# Altium footprint library PcbLib.PcbLib: 20 footprints (part 2 of 2)
Each footprint in its own frame and in the unit in brackets; x right, y up, seen from the top. Pads: shape width x height; smd on the part's side, far side on the other; paste and mask are expansions set on the pad; w line width, h text height; cw(c..) or ccw(c..) is an arc to the next point about the centre after c.
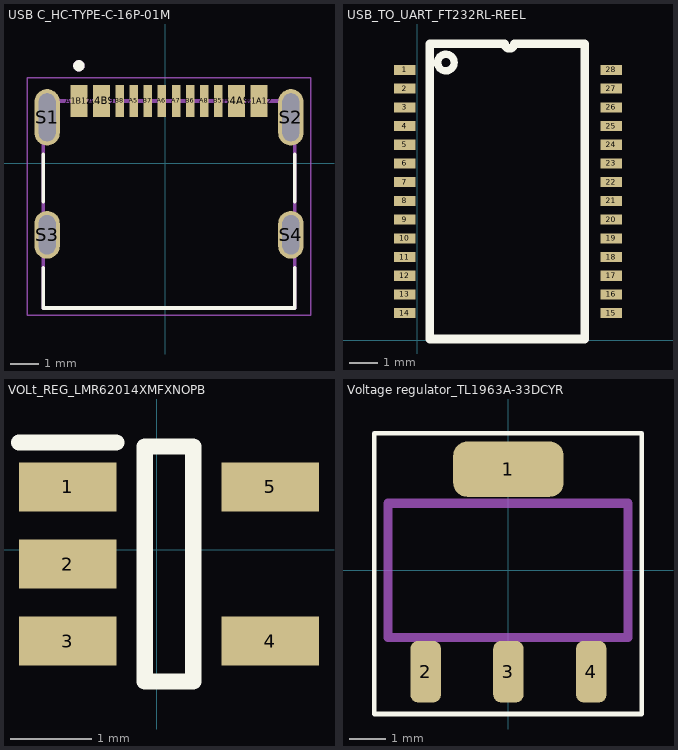
[diagram p1: the footprints below, top view; thin cyan lines are the x and y axes]

## USB C_HC-TYPE-C-16P-01M [mm]
pads (16):
  rect 0.6x1.14 smd mask+0.05: A1B12(-3.073,2.218) A4B9(-2.273,2.218) B1A12(3.327,2.218) B4A9(2.527,2.218)
  rect 0.3x1.14 smd mask+0.05: A5(-1.123,2.218) A6(-0.123,2.218) A7(0.377,2.218) A8(1.377,2.218) B5(1.877,2.218) B6(0.877,2.218) B7(-0.623,2.218) B8(-1.623,2.218)
  oval 0.9x2 hole 0.6 slot 1.7 at 90 deg: S1(-4.198,1.638) S2(4.452,1.638)
  oval 0.9x1.7 hole 0.6 slot 1.4 at 90 deg: S3(-4.198,-2.532) S4(4.452,-2.532)
Top Overlay:
  circle w0.2: c-3.073,3.468 r0.1
  lines w0.127: -4.343,-3.702 -4.343,-5.132 4.597,-5.132 4.597,-3.702 ; -4.343,-1.362 -4.343,0.318 ; 4.597,-1.362 4.597,0.318
Bottom Solder:
  text "Designator" at -3.496,-0.988 h1.52
Mechanical 13:
  circle w0.2: c-3.073,3.468 r0.1
  lines w0.127: -4.343,-5.132 4.597,-5.132 4.597,2.218 -4.343,2.218 -4.343,-5.132
Mechanical 15:
  lines w0.05: -4.898,-5.382 -4.898,3.038 5.152,3.038 5.152,-5.382 -4.898,-5.382
3D body "step_temp.STEP": height 3.31, standoff -0.99, extent -4.318,-5.064 4.622,2.841

## USB_TO_UART_FT232RL-REEL [mm]
pads (28):
  rect 0.75x0.35 smd: 1(-0.432,9.398) 2(-0.432,8.748) 3(-0.432,8.098) 4(-0.432,7.448) 5(-0.432,6.798) 6(-0.432,6.148) 7(-0.432,5.498) 8(-0.432,4.848) 9(-0.432,4.198) 10(-0.432,3.548) 11(-0.432,2.898) 12(-0.432,2.248) 13(-0.432,1.598) 14(-0.432,0.948) 15(6.728,0.948) 16(6.728,1.598) 17(6.728,2.248) 18(6.728,2.898) 19(6.728,3.548) 20(6.728,4.198) 21(6.728,4.848) 22(6.728,5.498) 23(6.728,6.148) 24(6.728,6.798) 25(6.728,7.448) 26(6.728,8.098) 27(6.728,8.748) 28(6.728,9.398)
Top Overlay:
  circle w0.254: c0.991,9.652 r0.287
  lines w0.3: 0.432,10.251 0.432,0.051 5.817,0.051 5.817,10.225 ; 0.432,10.307 3.036,10.307 ccw(c3.199,10.307) 3.361,10.307 5.817,10.307
3D body "IC28_SSOP-28_FTD.step": height 2.01, standoff 0, extent -0.8,-0.089 7.1,10.401

## VOLt_REG_LMR62014XMFXNOPB [mm]
pads (5):
  rect 1.2x0.6 smd: 1(-1.098,0.772) 2(-1.098,-0.178) 3(-1.098,-1.128) 4(1.402,-1.128) 5(1.402,0.772)
Top Overlay:
  lines w0.2: -1.698,1.322 -0.498,1.322 ; -0.148,-1.628 -0.148,1.272 0.452,1.272 0.452,-1.628 -0.148,-1.628
3D body "LMR62014XMFX_NOPB.STEP": height 1.45, standoff 0, extent -1.121,-1.575 1.679,1.325

## Voltage regulator_TL1963A-33DCYR [mil]
pads (4):
  rrect50% 120x60 smd: 1(0,110)
  rrect50% 33.07x66.93 smd: 2(-90,-110) 3(0,-110) 4(90,-110)
Top Overlay:
  lines w5: -146,-156 145,-156 145,149 -146,149 -146,32 -146,-156
Mechanical 1:
  lines w10: -131,-73 -131,73 130,73 130,-73 -131,-73
3D body "TL1963A-33DCYR.step": height 70.87, standoff 0, extent -127.95,-137.75 127.95,137.75